# EAGLE library part IQS550 (library pimoroni-ics)
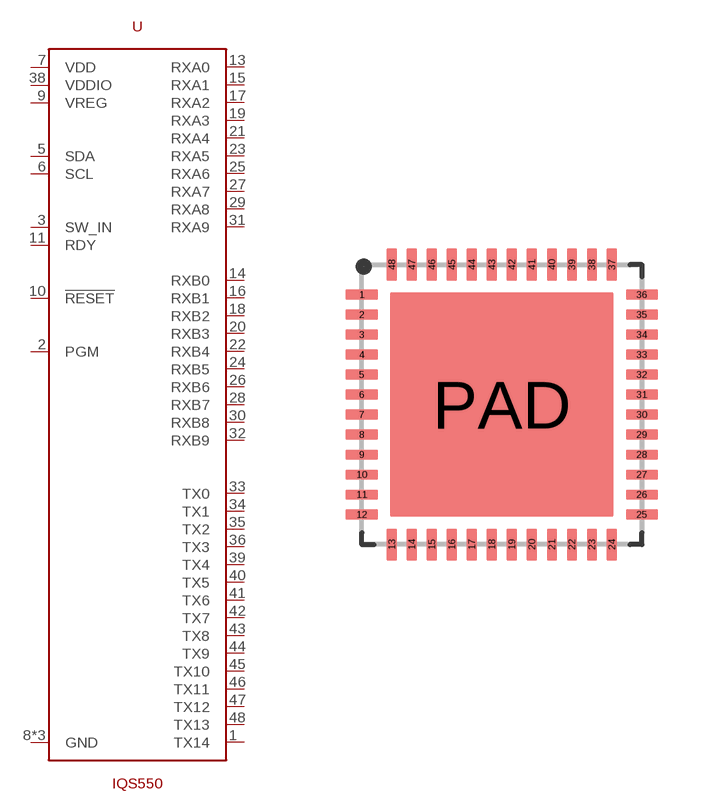
[diagram p145: symbol with the pads of UFQFN48-0.5MM; footprint UFQFN48-0.5MM]

Designator prefix -

## IQS550  [UFQFN48-0.5MM]
1  TX14
2  PGM
3  SW_IN
5  SDA
6  SCL
7  VDD
8  GND
9  VREG
10  !RESET
11  RDY
13  RXA0
14  RXB0
15  RXA1
16  RXB1
17  RXA2
18  RXB2
19  RXA3
20  RXB3
21  RXA4
22  RXB4
23  RXA5
24  RXB5
25  RXA6
26  RXB6
27  RXA7
28  RXB7
29  RXA8
30  RXB8
31  RXA9
32  RXB9
33  TX0
34  TX1
35  TX2
36  TX3
37  GND
38  VDDIO
39  TX4
40  TX5
41  TX6
42  TX7
43  TX8
44  TX9
45  TX10
46  TX11
47  TX12
48  TX13
PAD  GND

## Footprint UFQFN48-0.5MM (pad centres in mm)
smd 0.8 x 0.25: 1 -3.5,2.75; 2 -3.5,2.25; 3 -3.5,1.75; 4 -3.5,1.25; 5 -3.5,0.75; 6 -3.5,0.25; 7 -3.5,-0.25; 8 -3.5,-0.75; 9 -3.5,-1.25; 10 -3.5,-1.75; 11 -3.5,-2.25; 12 -3.5,-2.75; 25 3.5,-2.75; 26 3.5,-2.25; 27 3.5,-1.75; 28 3.5,-1.25; 29 3.5,-0.75; 30 3.5,-0.25; 31 3.5,0.25; 32 3.5,0.75; 33 3.5,1.25; 34 3.5,1.75; 35 3.5,2.25; 36 3.5,2.75
smd 0.25 x 0.8: 13 -2.75,-3.5; 14 -2.25,-3.5; 15 -1.75,-3.5; 16 -1.25,-3.5; 17 -0.75,-3.5; 18 -0.25,-3.5; 19 0.25,-3.5; 20 0.75,-3.5; 21 1.25,-3.5; 22 1.75,-3.5; 23 2.25,-3.5; 24 2.75,-3.5; 37 2.75,3.5; 38 2.25,3.5; 39 1.75,3.5; 40 1.25,3.5; 41 0.75,3.5; 42 0.25,3.5; 43 -0.25,3.5; 44 -0.75,3.5; 45 -1.25,3.5; 46 -1.75,3.5; 47 -2.25,3.5; 48 -2.75,3.5
smd 5.6 x 5.6: PAD 0,0